# Altium schematic symbol library MZBT_SchLibrary.SchLib: 117 symbols (part 2 of 2)
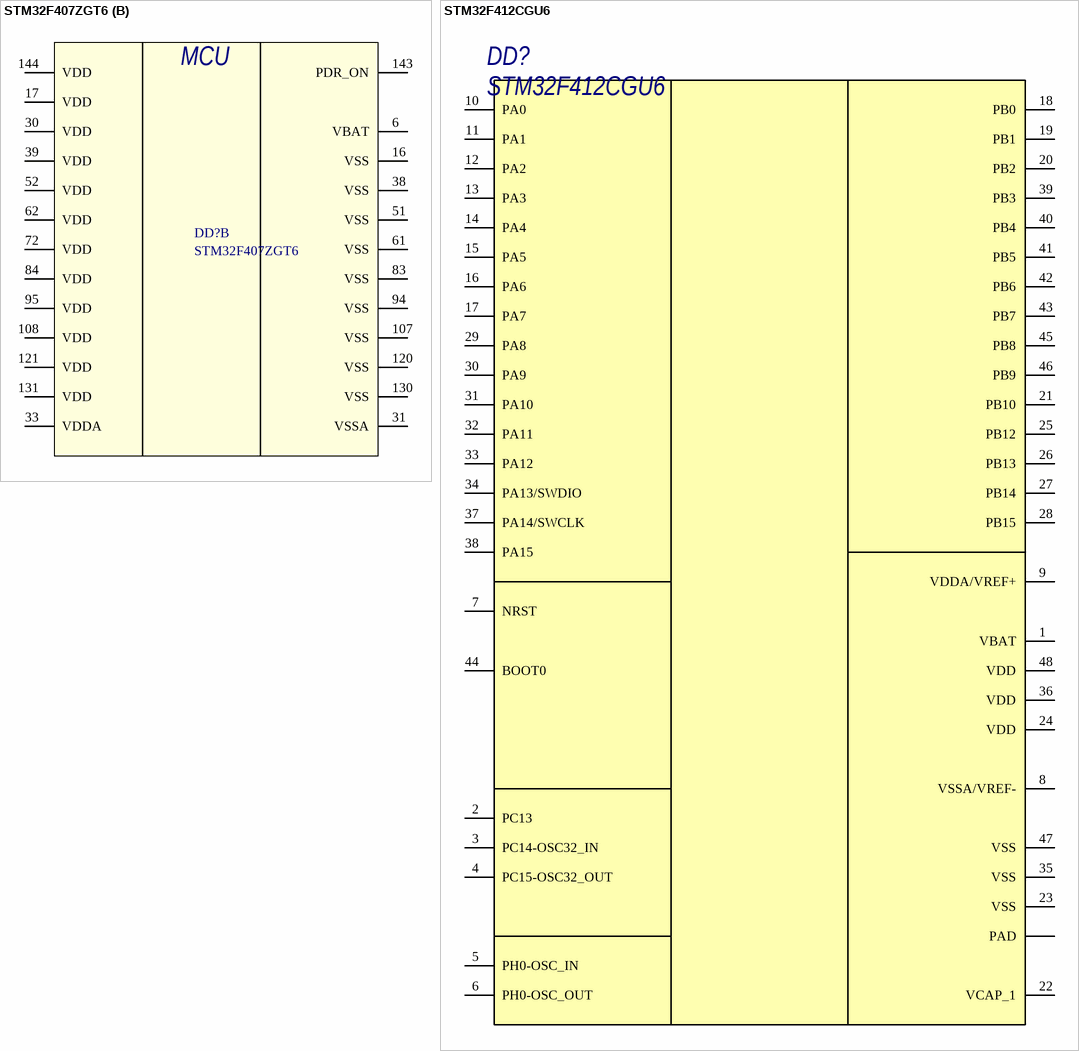
[diagram p22: symbols STM32F407ZGT6 to STM32F412CGU6]

## STM32F412CGU6
designator DD?
микроконтроллер STM32F412, 48-UFQFPN, 100 MHz, 1024kB FLASH, 320kB RAM; Name: STM32F412CGU6
footprint UFQFPN48 (PQFN, 48-Leads, Body 7,00x7,00mm, Pitch 0,50mm, Thermal Pad 5,60x5,60mm, IPC Medium Density)
pins: 1 VBAT, 2 PC13, 3 PC14-OSC32_IN, 4 PC15-OSC32_OUT, 5 PH0-OSC_IN, 6 PH0-OSC_OUT, 7 NRST, 8 VSSA/VREF-, 9 VDDA/VREF+, 10 PA0, 11 PA1, 12 PA2, 13 PA3, 14 PA4, 15 PA5, 16 PA6, 17 PA7, 18 PB0, 19 PB1, 20 PB2, 21 PB10, 22 VCAP_1, 23 VSS, 24 VDD, 25 PB12, 26 PB13, 27 PB14, 28 PB15, 29 PA8, 30 PA9, 31 PA10, 32 PA11, 33 PA12, 34 PA13/SWDIO, 35 VSS, 36 VDD, 37 PA14/SWCLK, 38 PA15, 39 PB3, 40 PB4, 41 PB5, 42 PB6, 43 PB7, 44 BOOT0, 45 PB8, 46 PB9, 47 VSS, 48 VDD, 49 PAD

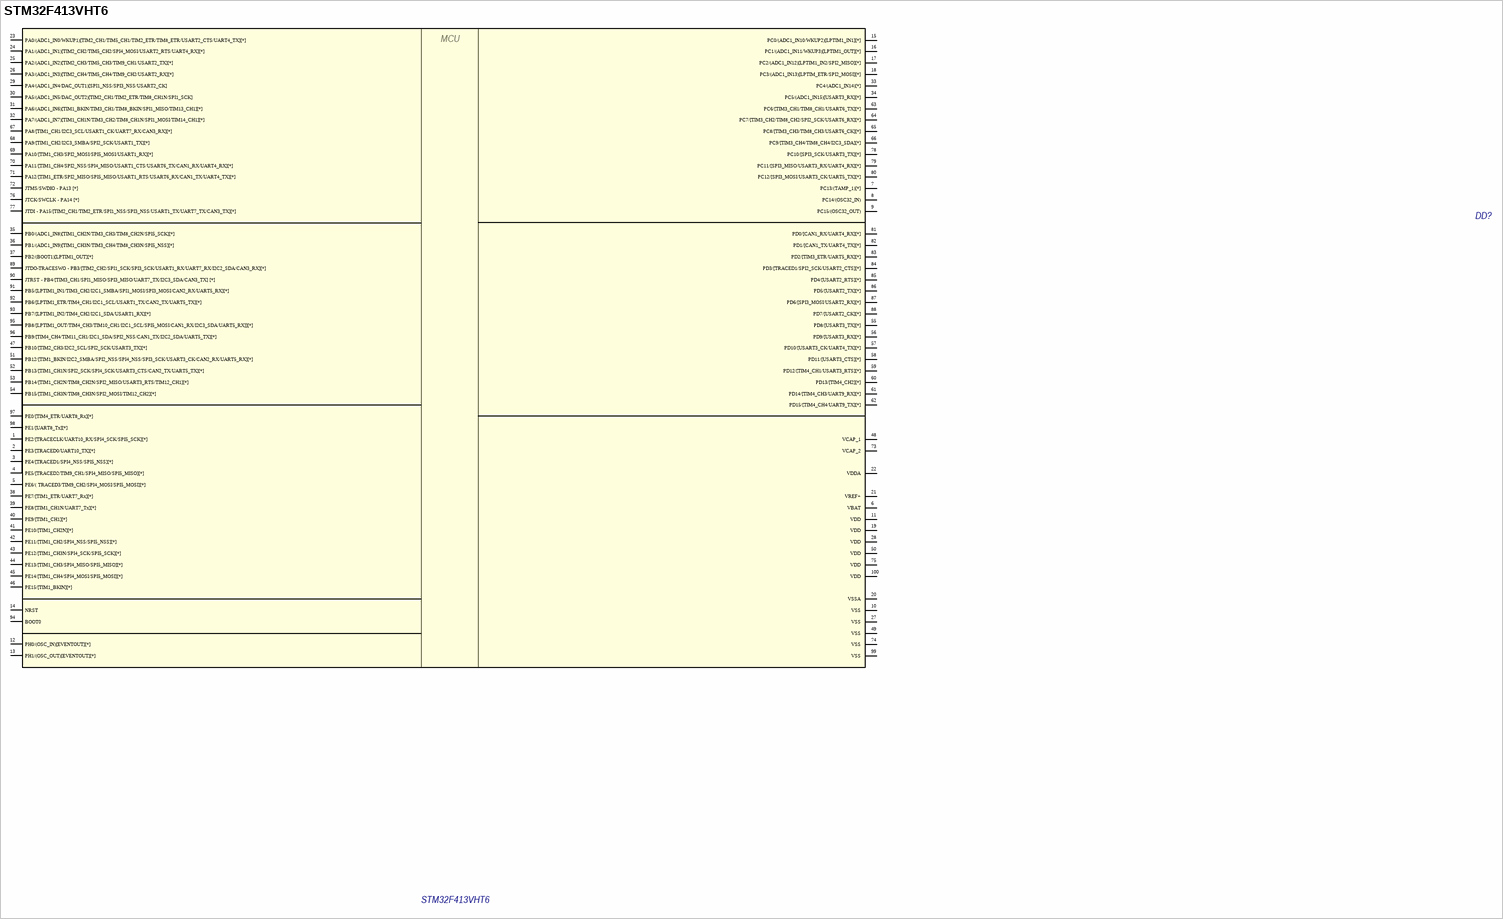
[diagram p19: symbol STM32F413VHT6]

## STM32F413VHT6
designator DD?
Микроконтроллер; Name: STM32F413VHT6
footprint LQFP100
pins: 1 PE2/[TRACECLK/UART10_RX/SPI4_SCK/SPI5_SCK][*], 2 PE3/[TRACED0/UART10_TX][*], 3 PE4/[TRACED1/SPI4_NSS/SPI5_NSS][*], 4 PE5/[TRACED2/TIM9_CH1/SPI4_MISO/SPI5_MISO][*], 5 PE6/( TRACED3/TIM9_CH2/SPI4_MOSI/SPI5_MOSI][*], 6 VBAT, 7 PC13/(TAMP_1)[*], 8 PC14/(OSC32_IN), 9 PC15/(OSC32_OUT), 10 VSS, 11 VDD, 12 PH0/(OSC_IN)[EVENTOUT][*], 13 PH1/(OSC_OUT)[EVENTOUT][*], 14 NRST, 15 PC0/(ADC1_IN10/WKUP2)[LPTIM1_IN1][*], 16 PC1/(ADC1_IN11/WKUP3)[LPTIM1_OUT][*], 17 PC2/(ADC1_IN12)[LPTIM1_IN2/SPI2_MISO][*], 18 PC3/(ADC1_IN13)[LPTIM_ETR/SPI2_MOSI][*], 19 VDD, 20 VSSA, 21 VREF+, 22 VDDA, 23 PA0/(ADC1_IN0/WKUP1)[TIM2_CH1/TIM5_CH1/TIM2_ETR/TIM8_ETR/USART2_CTS/UART4_TX][*], 24 PA1/(ADC1_IN1)[TIM2_CH2/TIM5_CH2/SPI4_MOSI/USART2_RTS/UART4_RX][*], 25 PA2/(ADC1_IN2)[TIM2_CH3/TIM5_CH3/TIM9_CH1/USART2_TX][*], 26 PA3/(ADC1_IN3)[TIM2_CH4/TIM5_CH4/TIM9_CH2/USART2_RX][*], 27 VSS, 28 VDD, 29 PA4/(ADC1_IN4/DAC_OUT1)[SPI1_NSS/SPI3_NSS/USART2_CK], 30 PA5/(ADC1_IN5/DAC_OUT2)[TIM2_CH1/TIM2_ETR/TIM8_CH1N/SPI1_SCK], 31 PA6/(ADC1_IN6)[TIM1_BKIN/TIM3_CH1/TIM8_BKIN/SPI1_MISO/TIM13_CH1][*], 32 PA7/(ADC1_IN7)[TIM1_CH1N/TIM3_CH2/TIM8_CH1N/SPI1_MOSI/TIM14_CH1][*], 33 PC4/(ADC1_IN14)[*], 34 PC5/(ADC1_IN15)[USART3_RX][*], 35 PB0/(ADC1_IN8)[TIM1_CH2N/TIM3_CH3/TIM8_CH2N/SPI5_SCK][*], 36 PB1/(ADC1_IN9)[TIM1_CH3N/TIM3_CH4/TIM8_CH3N/SPI5_NSS][*], 37 PB2/(BOOT1)[LPTIM1_OUT][*], 38 PE7/[TIM1_ETR/UART7_Rx][*], 39 PE8/[TIM1_CH1N/UART7_Tx][*], 40 PE9/[TIM1_CH1][*], 41 PE10/[TIM1_CH2N][*], 42 PE11/[TIM1_CH2/SPI4_NSS/SPI5_NSS][*], 43 PE12/[TIM1_CH3N/SPI4_SCK/SPI5_SCK][*], 44 PE13/[TIM1_CH3/SPI4_MISO/SPI5_MISO][*], 45 PE14/[TIM1_CH4/SPI4_MOSI/SPI5_MOSI][*], 46 PE15/[TIM1_BKIN][*], 47 PB10/[TIM2_CH3/I2C2_SCL/SPI2_SCK/USART3_TX][*], 48 VCAP_1, 49 VSS, 50 VDD, 51 PB12/[TIM1_BKIN/I2C2_SMBA/SPI2_NSS/SPI4_NSS/SPI3_SCK/USART3_CK/CAN2_RX/UART5_RX][*], 52 PB13/[TIM1_CH1N/SPI2_SCK/SPI4_SCK/USART3_CTS/CAN2_TX/UART5_TX][*], 53 PB14/[TIM1_CH2N/TIM8_CH2N/SPI2_MISO/USART3_RTS/TIM12_CH1][*], 54 PB15/[TIM1_CH3N/TIM8_CH3N/SPI2_MOSI/TIM12_CH2][*], 55 PD8/[USART3_TX][*], 56 PD9/[USART3_RX][*], 57 PD10/[USART3_CK/UART4_TX][*], 58 PD11/[USART3_CTS][*], 59 PD12/[TIM4_CH1/USART3_RTS][*], 60 PD13/[TIM4_CH2][*], 61 PD14/[TIM4_CH3/UART9_RX][*], 62 PD15/[TIM4_CH4/UART9_TX][*], 63 PC6/[TIM3_CH1/TIM8_CH1/USART6_TX][*], 64 PC7/[TIM3_CH2/TIM8_CH2/SPI2_SCK/USART6_RX][*], 65 PC8/[TIM3_CH3/TIM8_CH3/USART6_CK][*], 66 PC9/[TIM3_CH4/TIM8_CH4/I2C3_SDA][*], 67 PA8/[TIM1_CH1/I2C3_SCL/USART1_CK/UART7_RX/CAN3_RX][*], 68 PA9/[TIM1_CH2/I2C3_SMBA/SPI2_SCK/USART1_TX][*], 69 PA10/[TIM1_CH3/SPI2_MOSI/SPI5_MOSI/USART1_RX][*], 70 PA11/[TIM1_CH4/SPI2_NSS/SPI4_MISO/USART1_CTS/USART6_TX/CAN1_RX/UART4_RX][*], 71 PA12/[TIM1_ETR/SPI2_MISO/SPI5_MISO/USART1_RTS/USART6_RX/CAN1_TX/UART4_TX][*], 72 JTMS/SWDIO - PA13 [*], 73 VCAP_2, 74 VSS, 75 VDD, 76 JTCK/SWCLK - PA14 [*], 77 JTDI - PA15/[TIM2_CH1/TIM2_ETR/SPI1_NSS/SPI3_NSS/USART1_TX/UART7_TX/CAN3_TX][*], 78 PC10/[SPI3_SCK/USART3_TX][*], 79 PC11/[SPI3_MISO/USART3_RX/UART4_RX][*], 80 PC12/[SPI3_MOSI/USART3_CK/UART5_TX][*], 81 PD0/[CAN1_RX/UART4_RX][*], 82 PD1/[CAN1_TX/UART4_TX][*], 83 PD2/[TIM3_ETR/UART5_RX][*], 84 PD3/[TRACED1/SPI2_SCK/USART2_CTS][*], 85 PD4/[USART2_RTS][*], 86 PD5/[USART2_TX][*], 87 PD6/[SPI3_MOSI/USART2_RX][*], 88 PD7/[USART2_CK][*], 89 JTDO-TRACESWO - PB3/[TIM2_CH2/SPI1_SCK/SPI3_SCK/USART1_RX/UART7_RX/I2C2_SDA/CAN3_RX][*], 90 JTRST - PB4/[TIM3_CH1/SPI1_MISO/SPI3_MISO/UART7_TX/I2C3_SDA/CAN3_TX] [*], 91 PB5/[LPTIM1_IN1/TIM3_CH2/I2C1_SMBA/SPI1_MOSI/SPI3_MOSI/CAN2_RX/UART5_RX][*], 92 PB6/[LPTIM1_ETR/TIM4_CH1/I2C1_SCL/USART1_TX/CAN2_TX/UART5_TX][*], 93 PB7/[LPTIM1_IN2/TIM4_CH2/I2C1_SDA/USART1_RX][*], 94 BOOT0, 95 PB8/[LPTIM1_OUT/TIM4_CH3/TIM10_CH1/I2C1_SCL/SPI5_MOSI/CAN1_RX/I2C3_SDA/UART5_RX]][*], 96 PB9/[TIM4_CH4/TIM11_CH1/I2C1_SDA/SPI2_NSS/CAN1_TX/I2C2_SDA/UART5_TX][*], 97 PE0/[TIM4_ETR/UART8_Rx][*], 98 PE1/[UART8_Tx][*], 99 VSS, 100 VDD
text: MCU

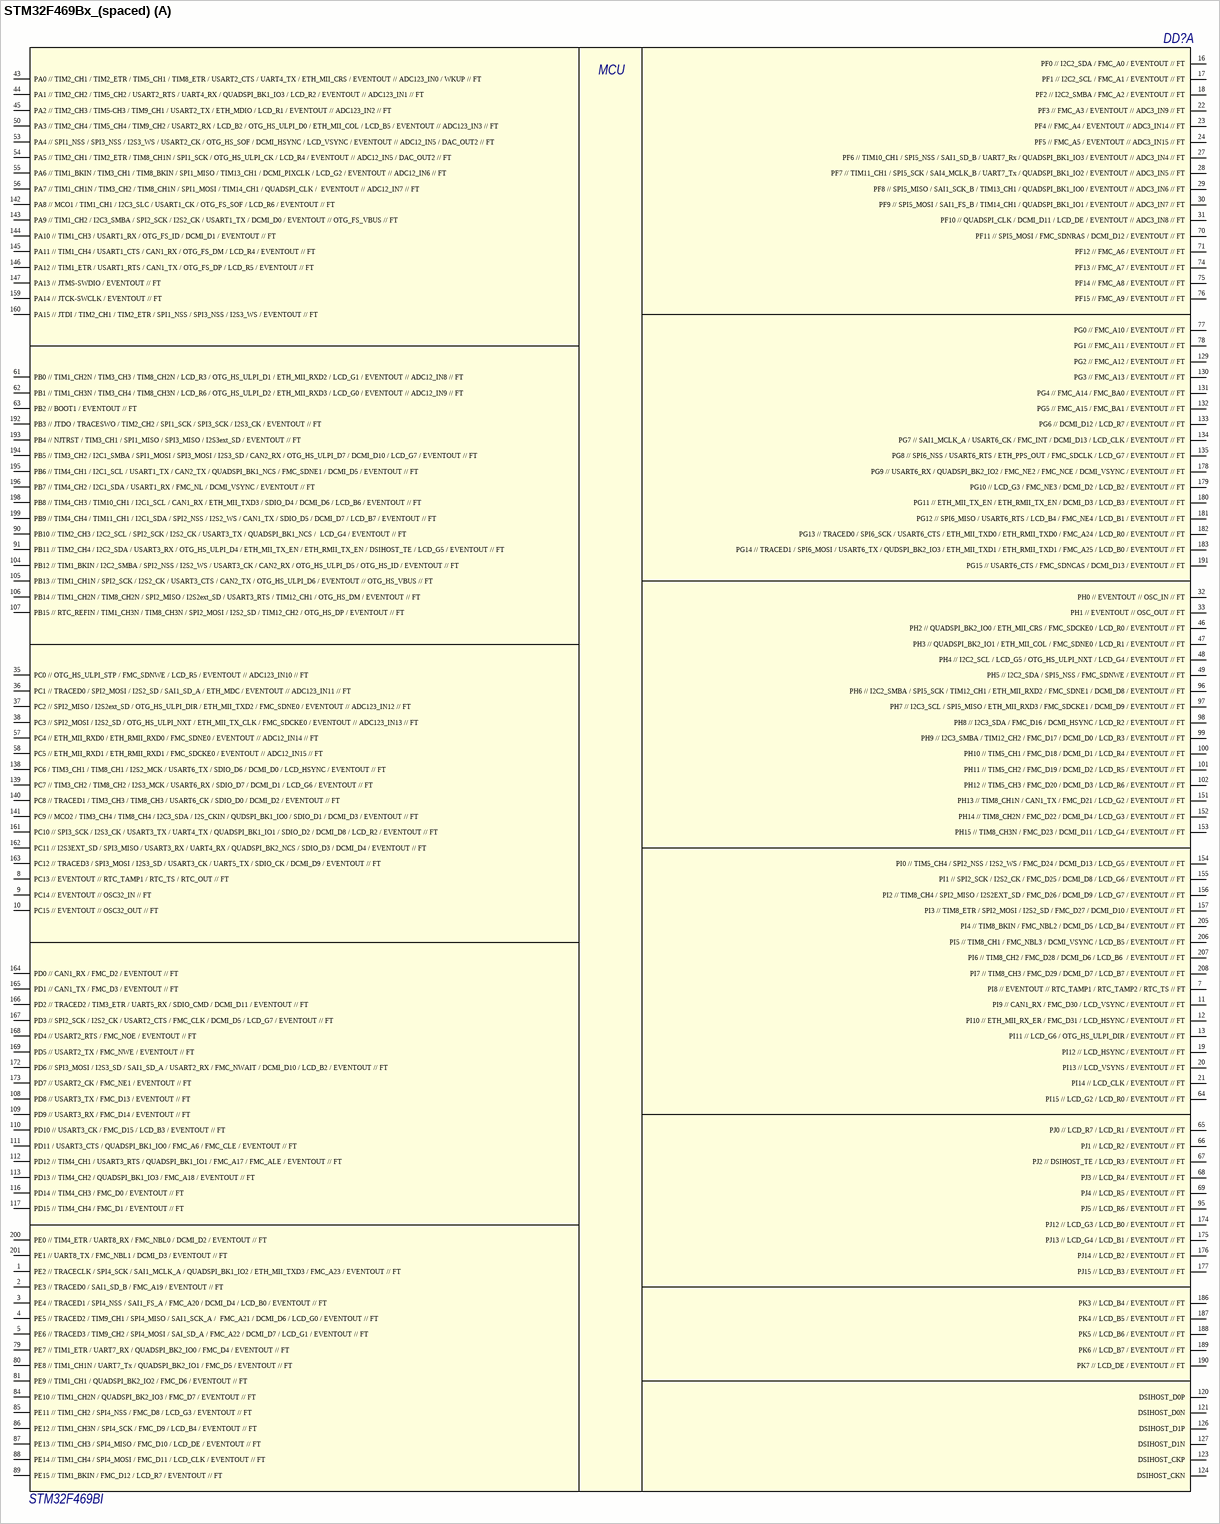
[diagram p20: symbol STM32F469Bx_(spaced)]

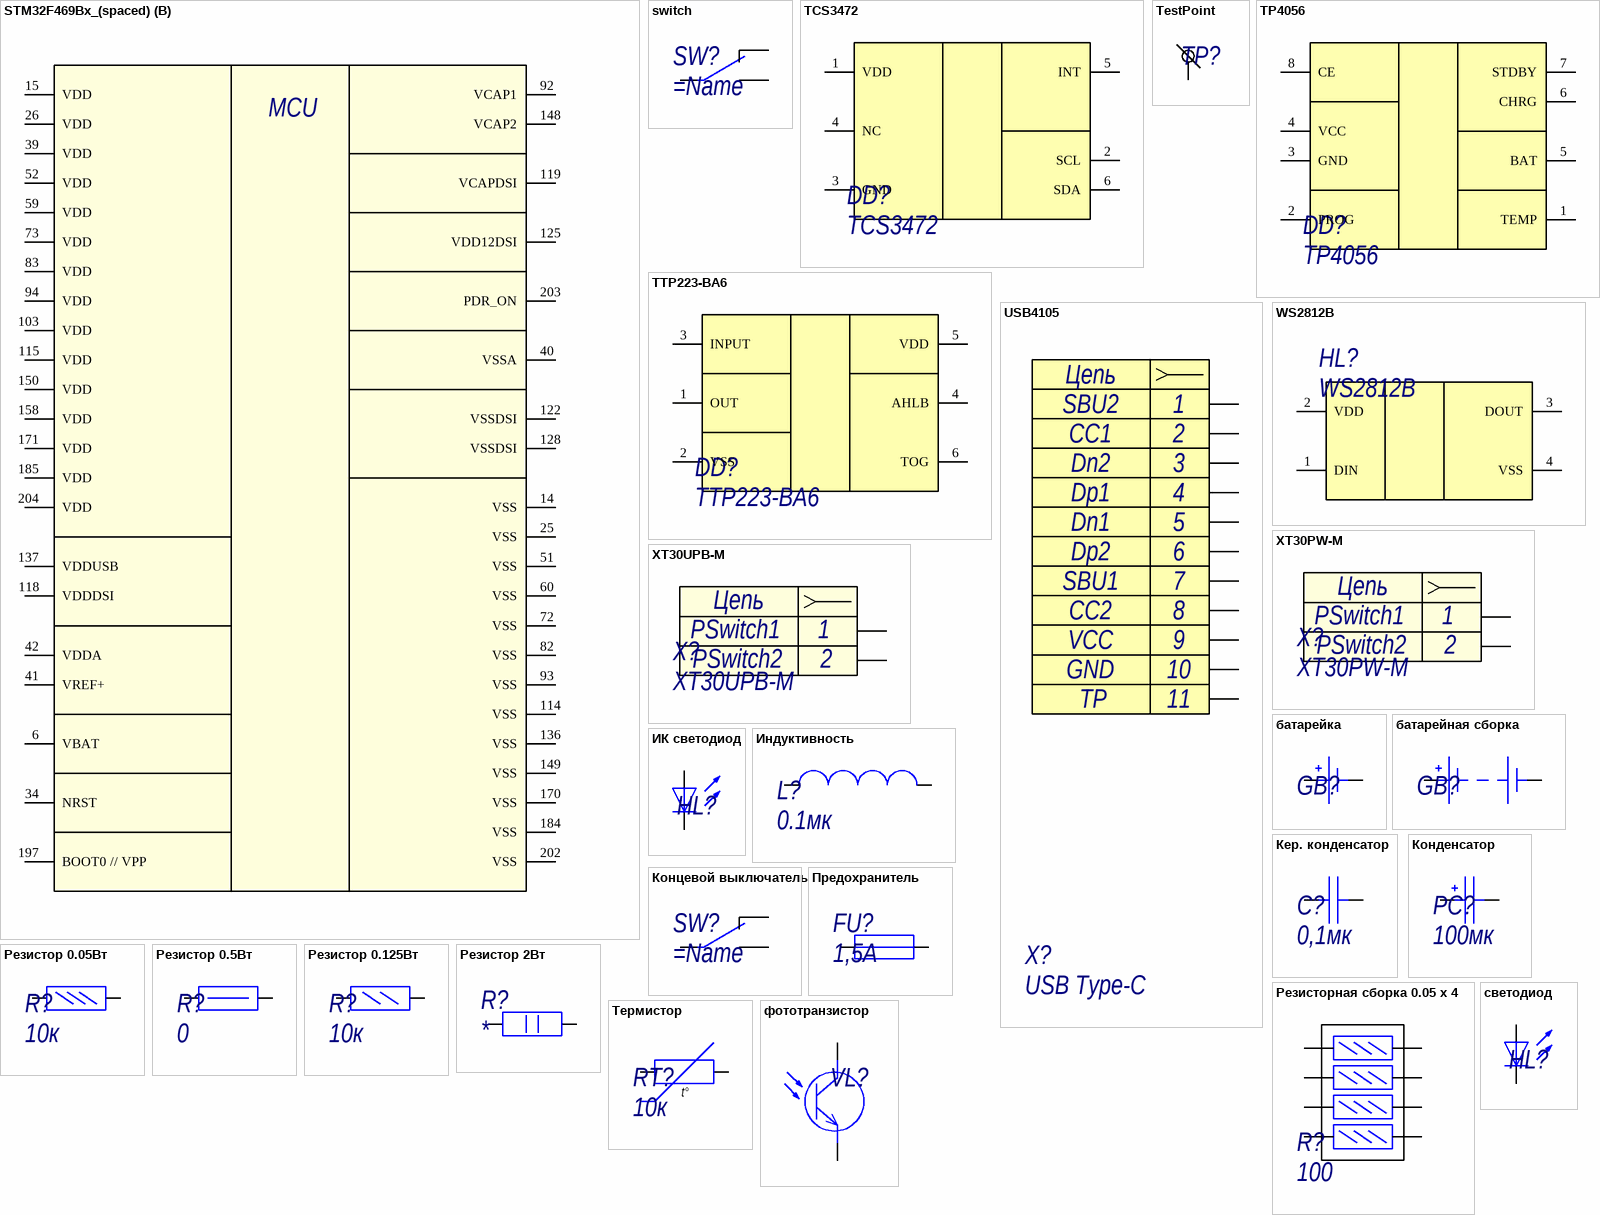
[diagram p21: symbols STM32F469Bx_(spaced) to фототранзистор]

## STM32F469Bx_(spaced)
designator DD?, comment STM32F469BI
Микроконтроллер (разнесённый способ); Manufacturer: STMicroelectronics; Name: STM32F469BI
footprint LQFP208_A
part A pins: 1 PE2 // TRACECLK / SPI4_SCK / SAI1_MCLK_A / QUADSPI_BK1_IO2 / ETH_MII_TXD3 / FMC_A23 / EVENTOUT // FT, 2 PE3 // TRACED0 / SAI1_SD_B / FMC_A19 / EVENTOUT // FT, 3 PE4 // TRACED1 / SPI4_NSS / SAI1_FS_A / FMC_A20 / DCMI_D4 / LCD_B0 / EVENTOUT // FT, 4 PE5 // TRACED2 / TIM9_CH1 / SPI4_MISO / SAI1_SCK_A /  FMC_A21 / DCMI_D6 / LCD_G0 / EVENTOUT // FT, 5 PE6 // TRACED3 / TIM9_CH2 / SPI4_MOSI / SAI_SD_A / FMC_A22 / DCMI_D7 / LCD_G1 / EVENTOUT // FT, 7 PI8 // EVENTOUT // RTC_TAMP1 / RTC_TAMP2 / RTC_TS // FT, 8 PC13 // EVENTOUT // RTC_TAMP1 / RTC_TS / RTC_OUT // FT, 9 PC14 // EVENTOUT // OSC32_IN // FT, 10 PC15 // EVENTOUT // OSC32_OUT // FT, 11 PI9 // CAN1_RX / FMC_D30 / LCD_VSYNC / EVENTOUT // FT, 12 PI10 // ETH_MII_RX_ER / FMC_D31 / LCD_HSYNC / EVENTOUT // FT, 13 PI11 // LCD_G6 / OTG_HS_ULPI_DIR / EVENTOUT // FT, 16 PF0 // I2C2_SDA / FMC_A0 / EVENTOUT // FT, 17 PF1 // I2C2_SCL / FMC_A1 / EVENTOUT // FT, 18 PF2 // I2C2_SMBA / FMC_A2 / EVENTOUT // FT, 19 PI12 // LCD_HSYNC / EVENTOUT // FT, 20 PI13 // LCD_VSYNS / EVENTOUT // FT, 21 PI14 // LCD_CLK / EVENTOUT // FT, 22 PF3 // FMC_A3 / EVENTOUT // ADC3_IN9 // FT, 23 PF4 // FMC_A4 / EVENTOUT // ADC3_IN14 // FT, 24 PF5 // FMC_A5 / EVENTOUT // ADC3_IN15 // FT, 27 PF6 // TIM10_CH1 / SPI5_NSS / SAI1_SD_B / UART7_Rx / QUADSPI_BK1_IO3 / EVENTOUT // ADC3_IN4 // FT, 28 PF7 // TIM11_CH1 / SPI5_SCK / SAI4_MCLK_B / UART7_Tx / QUADSPI_BK1_IO2 / EVENTOUT // ADC3_IN5 // FT, 29 PF8 // SPI5_MISO / SAI1_SCK_B / TIM13_CH1 / QUADSPI_BK1_IO0 / EVENTOUT // ADC3_IN6 // FT, 30 PF9 // SPI5_MOSI / SAI1_FS_B / TIM14_CH1 / QUADSPI_BK1_IO1 / EVENTOUT // ADC3_IN7 // FT, 31 PF10 // QUADSPI_CLK / DCMI_D11 / LCD_DE / EVENTOUT // ADC3_IN8 // FT, 32 PH0 // EVENTOUT // OSC_IN // FT, 33 PH1 // EVENTOUT // OSC_OUT // FT, 35 PC0 // OTG_HS_ULPI_STP / FMC_SDNWE / LCD_R5 / EVENTOUT // ADC123_IN10 // FT, 36 PC1 // TRACED0 / SPI2_MOSI / I2S2_SD / SAI1_SD_A / ETH_MDC / EVENTOUT // ADC123_IN11 // FT, 37 PC2 // SPI2_MISO / I2S2ext_SD / OTG_HS_ULPI_DIR / ETH_MII_TXD2 / FMC_SDNE0 / EVENTOUT // ADC123_IN12 // FT, 38 PC3 // SPI2_MOSI / I2S2_SD / OTG_HS_ULPI_NXT / ETH_MII_TX_CLK / FMC_SDCKE0 / EVENTOUT // ADC123_IN13 // FT, 43 PA0 // TIM2_CH1 / TIM2_ETR / TIM5_CH1 / TIM8_ETR / USART2_CTS / UART4_TX / ETH_MII_CRS / EVENTOUT // ADC123_IN0 / WKUP // FT, 44 PA1 // TIM2_CH2 / TIM5_CH2 / USART2_RTS / UART4_RX / QUADSPI_BK1_IO3 / LCD_R2 / EVENTOUT // ADC123_IN1 // FT, 45 PA2 // TIM2_CH3 / TIM5-CH3 / TIM9_CH1 / USART2_TX / ETH_MDIO / LCD_R1 / EVENTOUT // ADC123_IN2 // FT, 46 PH2 // QUADSPI_BK2_IO0 / ETH_MII_CRS / FMC_SDCKE0 / LCD_R0 / EVENTOUT // FT, 47 PH3 // QUADSPI_BK2_IO1 / ETH_MII_COL / FMC_SDNE0 / LCD_R1 / EVENTOUT // FT, 48 PH4 // I2C2_SCL / LCD_G5 / OTG_HS_ULPI_NXT / LCD_G4 / EVENTOUT // FT, 49 PH5 // I2C2_SDA / SPI5_NSS / FMC_SDNWE / EVENTOUT // FT, 50 PA3 // TIM2_CH4 / TIM5_CH4 / TIM9_CH2 / USART2_RX / LCD_B2 / OTG_HS_ULPI_D0 / ETH_MII_COL / LCD_B5 / EVENTOUT // ADC123_IN3 // FT, 53 PA4 // SPI1_NSS / SPI3_NSS / I2S3_WS / USART2_CK / OTG_HS_SOF / DCMI_HSYNC / LCD_VSYNC / EVENTOUT // ADC12_IN5 / DAC_OUT2 // FT, 54 PA5 // TIM2_CH1 / TIM2_ETR / TIM8_CH1N / SPI1_SCK / OTG_HS_ULPI_CK / LCD_R4 / EVENTOUT // ADC12_IN5 / DAC_OUT2 // FT, 55 PA6 // TIM1_BKIN / TIM3_CH1 / TIM8_BKIN / SPI1_MISO / TIM13_CH1 / DCMI_PIXCLK / LCD_G2 / EVENTOUT // ADC12_IN6 // FT, 56 PA7 // TIM1_CH1N / TIM3_CH2 / TIM8_CH1N / SPI1_MOSI / TIM14_CH1 / QUADSPI_CLK /  EVENTOUT // ADC12_IN7 // FT, 57 PC4 // ETH_MII_RXD0 / ETH_RMII_RXD0 / FMC_SDNE0 / EVENTOUT // ADC12_IN14 // FT, 58 PC5 // ETH_MII_RXD1 / ETH_RMII_RXD1 / FMC_SDCKE0 / EVENTOUT // ADC12_IN15 // FT, 61 PB0 // TIM1_CH2N / TIM3_CH3 / TIM8_CH2N / LCD_R3 / OTG_HS_ULPI_D1 / ETH_MII_RXD2 / LCD_G1 / EVENTOUT // ADC12_IN8 // FT, 62 PB1 // TIM1_CH3N / TIM3_CH4 / TIM8_CH3N / LCD_R6 / OTG_HS_ULPI_D2 / ETH_MII_RXD3 / LCD_G0 / EVENTOUT // ADC12_IN9 // FT, 63 PB2 // BOOT1 / EVENTOUT // FT, 64 PI15 // LCD_G2 / LCD_R0 / EVENTOUT // FT, 65 PJ0 // LCD_R7 / LCD_R1 / EVENTOUT // FT, 66 PJ1 // LCD_R2 / EVENTOUT // FT, 67 PJ2 // DSIHOST_TE / LCD_R3 / EVENTOUT // FT, 68 PJ3 // LCD_R4 / EVENTOUT // FT, 69 PJ4 // LCD_R5 / EVENTOUT // FT, 70 PF11 // SPI5_MOSI / FMC_SDNRAS / DCMI_D12 / EVENTOUT // FT, 71 PF12 // FMC_A6 / EVENTOUT // FT, 74 PF13 // FMC_A7 / EVENTOUT // FT, 75 PF14 // FMC_A8 / EVENTOUT // FT, 76 PF15 // FMC_A9 / EVENTOUT // FT, 77 PG0 // FMC_A10 / EVENTOUT // FT, 78 PG1 // FMC_A11 / EVENTOUT // FT, 79 PE7 // TIM1_ETR / UART7_RX / QUADSPI_BK2_IO0 / FMC_D4 / EVENTOUT // FT, 80 PE8 // TIM1_CH1N / UART7_Tx / QUADSPI_BK2_IO1 / FMC_D5 / EVENTOUT // FT, 81 PE9 // TIM1_CH1 / QUADSPI_BK2_IO2 / FMC_D6 / EVENTOUT // FT, 84 PE10 // TIM1_CH2N / QUADSPI_BK2_IO3 / FMC_D7 / EVENTOUT // FT, 85 PE11 // TIM1_CH2 / SPI4_NSS / FMC_D8 / LCD_G3 / EVENTOUT // FT, 86 PE12 // TIM1_CH3N / SPI4_SCK / FMC_D9 / LCD_B4 / EVENTOUT // FT, 87 PE13 // TIM1_CH3 / SPI4_MISO / FMC_D10 / LCD_DE / EVENTOUT // FT, 88 PE14 // TIM1_CH4 / SPI4_MOSI / FMC_D11 / LCD_CLK / EVENTOUT // FT, 89 PE15 // TIM1_BKIN / FMC_D12 / LCD_R7 / EVENTOUT // FT, 90 PB10 // TIM2_CH3 / I2C2_SCL / SPI2_SCK / I2S2_CK / USART3_TX / QUADSPI_BK1_NCS /  LCD_G4 / EVENTOUT // FT, 91 PB11 // TIM2_CH4 / I2C2_SDA / USART3_RX / OTG_HS_ULPI_D4 / ETH_MII_TX_EN / ETH_RMII_TX_EN / DSIHOST_TE / LCD_G5 / EVENTOUT // FT, 95 PJ5 // LCD_R6 / EVENTOUT // FT, 96 PH6 // I2C2_SMBA / SPI5_SCK / TIM12_CH1 / ETH_MII_RXD2 / FMC_SDNE1 / DCMI_D8 / EVENTOUT // FT, 97 PH7 // I2C3_SCL / SPI5_MISO / ETH_MII_RXD3 / FMC_SDCKE1 / DCMI_D9 / EVENTOUT // FT, 98 PH8 // I2C3_SDA / FMC_D16 / DCMI_HSYNC / LCD_R2 / EVENTOUT // FT, 99 PH9 // I2C3_SMBA / TIM12_CH2 / FMC_D17 / DCMI_D0 / LCD_R3 / EVENTOUT // FT, 100 PH10 // TIM5_CH1 / FMC_D18 / DCMI_D1 / LCD_R4 / EVENTOUT // FT, 101 PH11 // TIM5_CH2 / FMC_D19 / DCMI_D2 / LCD_R5 / EVENTOUT // FT, 102 PH12 // TIM5_CH3 / FMC_D20 / DCMI_D3 / LCD_R6 / EVENTOUT // FT, 104 PB12 // TIM1_BKIN / I2C2_SMBA / SPI2_NSS / I2S2_WS / USART3_CK / CAN2_RX / OTG_HS_ULPI_D5 / OTG_HS_ID / EVENTOUT // FT, 105 PB13 // TIM1_CH1N / SPI2_SCK / I2S2_CK / USART3_CTS / CAN2_TX / OTG_HS_ULPI_D6 / EVENTOUT // OTG_HS_VBUS // FT, 106 PB14 // TIM1_CH2N / TIM8_CH2N / SPI2_MISO / I2S2ext_SD / USART3_RTS / TIM12_CH1 / OTG_HS_DM / EVENTOUT // FT, 107 PB15 // RTC_REFIN / TIM1_CH3N / TIM8_CH3N / SPI2_MOSI / I2S2_SD / TIM12_CH2 / OTG_HS_DP / EVENTOUT // FT, 108 PD8 // USART3_TX / FMC_D13 / EVENTOUT // FT, 109 PD9 // USART3_RX / FMC_D14 / EVENTOUT // FT, 110 PD10 // USART3_CK / FMC_D15 / LCD_B3 / EVENTOUT // FT, 111 PD11 / USART3_CTS / QUADSPI_BK1_IO0 / FMC_A6 / FMC_CLE / EVENTOUT // FT, 112 PD12 // TIM4_CH1 / USART3_RTS / QUADSPI_BK1_IO1 / FMC_A17 / FMC_ALE / EVENTOUT // FT, 113 PD13 // TIM4_CH2 / QUADSPI_BK1_IO3 / FMC_A18 / EVENTOUT // FT, 116 PD14 // TIM4_CH3 / FMC_D0 / EVENTOUT // FT, 117 PD15 // TIM4_CH4 / FMC_D1 / EVENTOUT // FT, 120 DSIHOST_D0P, 121 DSIHOST_D0N, 123 DSIHOST_CKP, 124 DSIHOST_CKN, 126 DSIHOST_D1P, 127 DSIHOST_D1N, 129 PG2 // FMC_A12 / EVENTOUT // FT, 130 PG3 // FMC_A13 / EVENTOUT // FT, 131 PG4 // FMC_A14 / FMC_BA0 / EVENTOUT // FT, 132 PG5 // FMC_A15 / FMC_BA1 / EVENTOUT // FT, 133 PG6 // DCMI_D12 / LCD_R7 / EVENTOUT // FT, 134 PG7 // SAI1_MCLK_A / USART6_CK / FMC_INT / DCMI_D13 / LCD_CLK / EVENTOUT // FT, 135 PG8 // SPI6_NSS / USART6_RTS / ETH_PPS_OUT / FMC_SDCLK / LCD_G7 / EVENTOUT // FT, 138 PC6 / TIM3_CH1 / TIM8_CH1 / I2S2_MCK / USART6_TX / SDIO_D6 / DCMI_D0 / LCD_HSYNC / EVENTOUT // FT, 139 PC7 // TIM3_CH2 / TIM8_CH2 / I2S3_MCK / USART6_RX / SDIO_D7 / DCMI_D1 / LCD_G6 / EVENTOUT // FT, 140 PC8 // TRACED1 / TIM3_CH3 / TIM8_CH3 / USART6_CK / SDIO_D0 / DCMI_D2 / EVENTOUT // FT, 141 PC9 // MCO2 / TIM3_CH4 / TIM8_CH4 / I2C3_SDA / I2S_CKIN / QUDSPI_BK1_IO0 / SDIO_D1 / DCMI_D3 / EVENTOUT // FT, 142 PA8 // MCO1 / TIM1_CH1 / I2C3_SLC / USART1_CK / OTG_FS_SOF / LCD_R6 / EVENTOUT // FT, 143 PA9 // TIM1_CH2 / I2C3_SMBA / SPI2_SCK / I2S2_CK / USART1_TX / DCMI_D0 / EVENTOUT // OTG_FS_VBUS // FT, 144 PA10 // TIM1_CH3 / USART1_RX / OTG_FS_ID / DCMI_D1 / EVENTOUT // FT, 145 PA11 // TIM1_CH4 / USART1_CTS / CAN1_RX / OTG_FS_DM / LCD_R4 / EVENTOUT // FT, 146 PA12 // TIM1_ETR / USART1_RTS / CAN1_TX / OTG_FS_DP / LCD_R5 / EVENTOUT // FT, 147 PA13 // JTMS-SWDIO / EVENTOUT // FT, 151 PH13 // TIM8_CH1N / CAN1_TX / FMC_D21 / LCD_G2 / EVENTOUT // FT, 152 PH14 // TIM8_CH2N / FMC_D22 / DCMI_D4 / LCD_G3 / EVENTOUT // FT, 153 PH15 // TIM8_CH3N / FMC_D23 / DCMI_D11 / LCD_G4 / EVENTOUT // FT, 154 PI0 // TIM5_CH4 / SPI2_NSS / I2S2_WS / FMC_D24 / DCMI_D13 / LCD_G5 / EVENTOUT // FT, 155 PI1 // SPI2_SCK / I2S2_CK / FMC_D25 / DCMI_D8 / LCD_G6 / EVENTOUT // FT, 156 PI2 // TIM8_CH4 / SPI2_MISO / I2S2EXT_SD / FMC_D26 / DCMI_D9 / LCD_G7 / EVENTOUT // FT, 157 PI3 // TIM8_ETR / SPI2_MOSI / I2S2_SD / FMC_D27 / DCMI_D10 / EVENTOUT // FT, 159 PA14 // JTCK-SWCLK / EVENTOUT // FT, 160 PA15 // JTDI / TIM2_CH1 / TIM2_ETR / SPI1_NSS / SPI3_NSS / I2S3_WS / EVENTOUT // FT, 161 PC10 // SPI3_SCK / I2S3_CK / USART3_TX / UART4_TX / QUADSPI_BK1_IO1 / SDIO_D2 / DCMI_D8 / LCD_R2 / EVENTOUT // FT, 162 PC11 // I2S3EXT_SD / SPI3_MISO / USART3_RX / UART4_RX / QUADSPI_BK2_NCS / SDIO_D3 / DCMI_D4 / EVENTOUT // FT, 163 PC12 // TRACED3 / SPI3_MOSI / I2S3_SD / USART3_CK / UART5_TX / SDIO_CK / DCMI_D9 / EVENTOUT // FT, 164 PD0 // CAN1_RX / FMC_D2 / EVENTOUT // FT, 165 PD1 // CAN1_TX / FMC_D3 / EVENTOUT // FT, 166 PD2 // TRACED2 / TIM3_ETR / UART5_RX / SDIO_CMD / DCMI_D11 / EVENTOUT // FT, 167 PD3 // SPI2_SCK / I2S2_CK / USART2_CTS / FMC_CLK / DCMI_D5 / LCD_G7 / EVENTOUT // FT, 168 PD4 // USART2_RTS / FMC_NOE / EVENTOUT // FT, 169 PD5 // USART2_TX / FMC_NWE / EVENTOUT // FT, 172 PD6 // SPI3_MOSI / I2S3_SD / SAI1_SD_A / USART2_RX / FMC_NWAIT / DCMI_D10 / LCD_B2 / EVENTOUT // FT, 173 PD7 // USART2_CK / FMC_NE1 / EVENTOUT // FT, 174 PJ12 // LCD_G3 / LCD_B0 / EVENTOUT // FT, 175 PJ13 // LCD_G4 / LCD_B1 / EVENTOUT // FT, 176 PJ14 // LCD_B2 / EVENTOUT // FT, 177 PJ15 // LCD_B3 / EVENTOUT // FT, 178 PG9 // USART6_RX / QUADSPI_BK2_IO2 / FMC_NE2 / FMC_NCE / DCMI_VSYNC / EVENTOUT // FT, 179 PG10 // LCD_G3 / FMC_NE3 / DCMI_D2 / LCD_B2 / EVENTOUT // FT, 180 PG11 // ETH_MII_TX_EN / ETH_RMII_TX_EN / DCMI_D3 / LCD_B3 / EVENTOUT // FT, 181 PG12 // SPI6_MISO / USART6_RTS / LCD_B4 / FMC_NE4 / LCD_B1 / EVENTOUT // FT, 182 PG13 // TRACED0 / SPI6_SCK / USART6_CTS / ETH_MII_TXD0 / ETH_RMII_TXD0 / FMC_A24 / LCD_R0 / EVENTOUT // FT, 183 PG14 // TRACED1 / SPI6_MOSI / USART6_TX / QUDSPI_BK2_IO3 / ETH_MII_TXD1 / ETH_RMII_TXD1 / FMC_A25 / LCD_B0 / EVENTOUT // FT, 186 PK3 // LCD_B4 / EVENTOUT // FT, 187 PK4 // LCD_B5 / EVENTOUT // FT, 188 PK5 // LCD_B6 / EVENTOUT // FT, 189 PK6 // LCD_B7 / EVENTOUT // FT, 190 PK7 // LCD_DE / EVENTOUT // FT, 191 PG15 // USART6_CTS / FMC_SDNCAS / DCMI_D13 / EVENTOUT // FT, 192 PB3 // JTDO / TRACESWO / TIM2_CH2 / SPI1_SCK / SPI3_SCK / I2S3_CK / EVENTOUT // FT, 193 PB4 // NJTRST / TIM3_CH1 / SPI1_MISO / SPI3_MISO / I2S3ext_SD / EVENTOUT // FT, 194 PB5 // TIM3_CH2 / I2C1_SMBA / SPI1_MOSI / SPI3_MOSI / I2S3_SD / CAN2_RX / OTG_HS_ULPI_D7 / DCMI_D10 / LCD_G7 / EVENTOUT // FT, 195 PB6 // TIM4_CH1 / I2C1_SCL / USART1_TX / CAN2_TX / QUADSPI_BK1_NCS / FMC_SDNE1 / DCMI_D5 / EVENTOUT // FT, 196 PB7 // TIM4_CH2 / I2C1_SDA / USART1_RX / FMC_NL / DCMI_VSYNC / EVENTOUT // FT, 198 PB8 // TIM4_CH3 / TIM10_CH1 / I2C1_SCL / CAN1_RX / ETH_MII_TXD3 / SDIO_D4 / DCMI_D6 / LCD_B6 / EVENTOUT // FT, 199 PB9 // TIM4_CH4 / TIM11_CH1 / I2C1_SDA / SPI2_NSS / I2S2_WS / CAN1_TX / SDIO_D5 / DCMI_D7 / LCD_B7 / EVENTOUT // FT, 200 PE0 // TIM4_ETR / UART8_RX / FMC_NBL0 / DCMI_D2 / EVENTOUT // FT, 201 PE1 // UART8_TX / FMC_NBL1 / DCMI_D3 / EVENTOUT // FT, 205 PI4 // TIM8_BKIN / FMC_NBL2 / DCMI_D5 / LCD_B4 / EVENTOUT // FT, 206 PI5 // TIM8_CH1 / FMC_NBL3 / DCMI_VSYNC / LCD_B5 / EVENTOUT // FT, 207 PI6 // TIM8_CH2 / FMC_D28 / DCMI_D6 / LCD_B6  / EVENTOUT // FT, 208 PI7 // TIM8_CH3 / FMC_D29 / DCMI_D7 / LCD_B7 / EVENTOUT // FT
part B pins: 6 VBAT, 14 VSS, 15 VDD, 25 VSS, 26 VDD, 34 NRST, 39 VDD, 40 VSSA, 41 VREF+, 42 VDDA, 51 VSS, 52 VDD, 59 VDD, 60 VSS, 72 VSS, 73 VDD, 82 VSS, 83 VDD, 92 VCAP1, 93 VSS, 94 VDD, 103 VDD, 114 VSS, 115 VDD, 118 VDDDSI, 119 VCAPDSI, 122 VSSDSI, 125 VDD12DSI, 128 VSSDSI, 136 VSS, 137 VDDUSB, 148 VCAP2, 149 VSS, 150 VDD, 158 VDD, 170 VSS, 171 VDD, 184 VSS, 185 VDD, 197 BOOT0 // VPP, 202 VSS, 203 PDR_ON, 204 VDD
part A text: MCU
part B text: MCU

## switch
designator SW?
footprint MK12C02 (переключатель SMD)
pins: 1, 2, 3

## TCS3472
designator DD?
Name: TCS3472
footprint TCS3472
pins: 1 VDD, 2 SCL, 3 GND, 4 NC, 5 INT, 6 SDA

## TestPoint
designator TP?  (value not drawn)
footprint 0.5 x 0,9_round
pins: 1

## TP4056
designator DD?
линейное зарядное устройство; Name: TP4056
footprint SOP-8 (SOP127P600X175-8N, SOP, 8-Leads, Body 4,91x3,95mm, Pitch 1,27mm, IPC Medium Density)
pins: 1 TEMP, 2 PROG, 3 GND, 4 VCC, 5 BAT, 6 CHRG, 7 STDBY, 8 CE

## TTP223-BA6
designator DD?
Сенсорная ячейка TTP223-BA6; Name: TTP223-BA6
footprint SOT23-6 (SOT95P280X145-6N, SOT23, 6-Leads, Body 2,90x2,80mm, Pitch 0,95mm, IPC Medium Density)
pins: 1 OUT, 2 VSS, 3 INPUT, 4 AHLB, 5 VDD, 6 TOG

## USB4105
designator X?, comment USB Type-C
USB Type-C USB4105-GF-A / GCT; Contact_1: SBU2; Contact_2: CC1; Contact_3: Dn2; Contact_4: Dp1; Contact_5: Dn1; Contact_6: Dp2; Contact_7: SBU1; Contact_8: CC2; Contact_9: VCC; Contact_10: GND; Name: USB Type-C
footprint USB4105-15-A-120 (USB Type-c 16p USB4105-15-A-120)
pins: 1 B8, 2 A5, 3 B7, 4 A6, 5 A7, 6 B6, 7 A8, 8 B5, 9 GND, 10 VCC, TP
text: Цепь; 11

## WS2812B
designator HL?
адресный светодиод на микросхеме WS2812b; Name: WS2812B
footprint ws2812b 4020 (ws2812b led in 4020 case)
pins: 1 DIN, 2 VDD, 3 DOUT, 4 VSS

## XT30PW-M
designator X?
Contact_1: PSwitch1; Contact_2: PSwitch2; Name: XT30PW-M
footprint XT30PW-M
pins: 1, 2
text: Цепь

## XT30UPB-M
designator X?
Contact_1: PSwitch1; Contact_2: PSwitch2; Name: XT30UPB-M
footprint XT30UPB-M
pins: 1, 2
text: Цепь

## батарейка
designator GB?, comment 1,5В  (value not drawn)
батарейка типа AA; Value: 1,5В
pins: 1, 2

## батарейная сборка
designator GB?, comment 1,5В  (value not drawn)
3 гальванических элемента типа AA; Value: 1,5В
pins: 1, 2

## ИК светодиод
designator HL?
инфракрасный светодиод
footprint LED 5mm
pins: 1 A, 2 K

## Индуктивность
designator L?, comment 0.1мк
Value: 0.1мк
footprint SRP1038A (SRP1038A-4R7M)
footprint L0402
footprint L0603 (Chip Inductor, 2-Leads, Body 1,60x0,80mm, IPC Medium Density)
footprint L0805
footprint 10x10x4 inductor (Precision Wire Wound Inductor, 2-Leads, Body 11,00x10,00mm, IPC Medium Density)
pins: 1, 2

## Кер. конденсатор
designator С?, comment 0,1мк
Value: 0,1мк
footprint C0603
footprint C1210_AA - 2.5
footprint C0402
pins: 1, 2

## Конденсатор
designator PС?, comment 100мк
Value: 100мк
pins: 1, 2

## Концевой выключатель
designator SW?
footprint limit switch
pins: 1, 2, 3

## Предохранитель
designator FU?, comment 1,5A
Предохранитель 2Вт; Name: CC12H1.5A; Value: 1,5A
footprint F1206 (SMD FUSE 1206)
pins: 1, 2

## Резистор 0.05Вт
designator R?, comment 10к
Резистор 0,05Вт; Value: 10к
footprint R0603
footprint R0402
pins: 1, 2

## Резистор 0.5Вт
designator R?, comment 0
Value: 0
footprint R1210
pins: 1, 2

## Резистор 0.125Вт
designator R?, comment 10к
Резистор  0,125Вт; Value: 10к
footprint 0805 (Chip Resistor, 2-Leads, Body 2,10x1,30mm, IPC Medium Density)
pins: 1, 2

## Резистор 2Вт
designator R?
Резистор 2Вт; Value: *
footprint R2512
pins: 1, 2

## Резисторная сборка 0.05 x 4
designator R?, comment 100
Value: 100
footprint R0603X4
footprint R0402x4
pins: 1, 2, 3, 4, 5, 6, 7, 8

## светодиод
designator HL?
DIP светодиод
footprint LED 5mm
pins: 1 A, 2 K

## Термистор
designator RT?, comment 10к
Value: 10к
footprint R1206
pins: 1, 2
text: t°

## фототранзистор
designator VL?
footprint LED 5mm
pins: 1 C, 2 E